# Altium schematic symbol library LTC3789EUFD#TRPBF.SchLib: 1 symbol
Pins are listed as number, name and electrical type; pins without a type are passive.

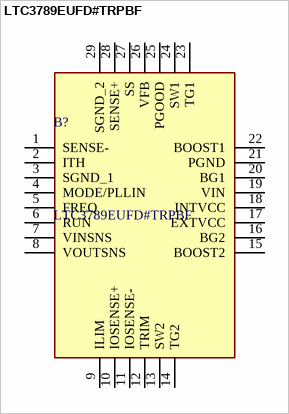
[diagram p0: symbol LTC3789EUFD#TRPBF]

## LTC3789EUFD#TRPBF
designator B?
Switching Voltage Regulators High Efficiency, Synchronous, 4-Switch Buck-Boost Controller; Manufacturer_Name: Analog Devices; Geometry.Height: 0.8mm; Mouser Part Number: 584-LTC3789EUFDTRPBF; Mouser Price/Stock: https://www.mouser.co.uk/ProductDetail/Analog-Devices-Linear-Technology/LTC3789EUFDTRPBF?qs=hVkxg5c3xu9SnagP15eVeg%3D%3D; Manufacturer_Part_Number: LTC3789EUFD#TRPBF; Datasheet Link: https://datasheet.datasheetarchive.com/originals/distributors/Datasheets-SFU4/DSASF4000-3463.pdf
footprint QFN50P400X500X80-29N-D
pins: 1 SENSE-, 2 ITH, 3 SGND_1, 4 MODE/PLLIN, 5 FREQ, 6 RUN, 7 VINSNS, 8 VOUTSNS, 9 ILIM, 10 IOSENSE+, 11 IOSENSE-, 12 TRIM, 13 SW2, 14 TG2, 15 BOOST2, 16 BG2, 17 EXTVCC, 18 INTVCC, 19 VIN, 20 BG1, 21 PGND, 22 BOOST1, 23 TG1, 24 SW1, 25 PGOOD, 26 VFB, 27 SS, 28 SENSE+, 29 SGND_2